# Altium schematic symbol library Capasitor.SchLib: 1 symbol
Pins are listed as number, name and electrical type; pins without a type are passive.

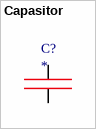
[diagram p0: symbol Capasitor]

## Capasitor
designator C?
Конденсатор
pins: 1, 2